# Altium footprint library Pin Grid Array Package (PGA).PcbLib: 60 footprints (part 6 of 6)
Each footprint in its own frame and in the unit in brackets; x right, y up, seen from the top. Pads: shape width x height; smd on the part's side, far side on the other; paste and mask are expansions set on the pad; w line width, h text height; cw(c..) or ccw(c..) is an arc to the next point about the centre after c.
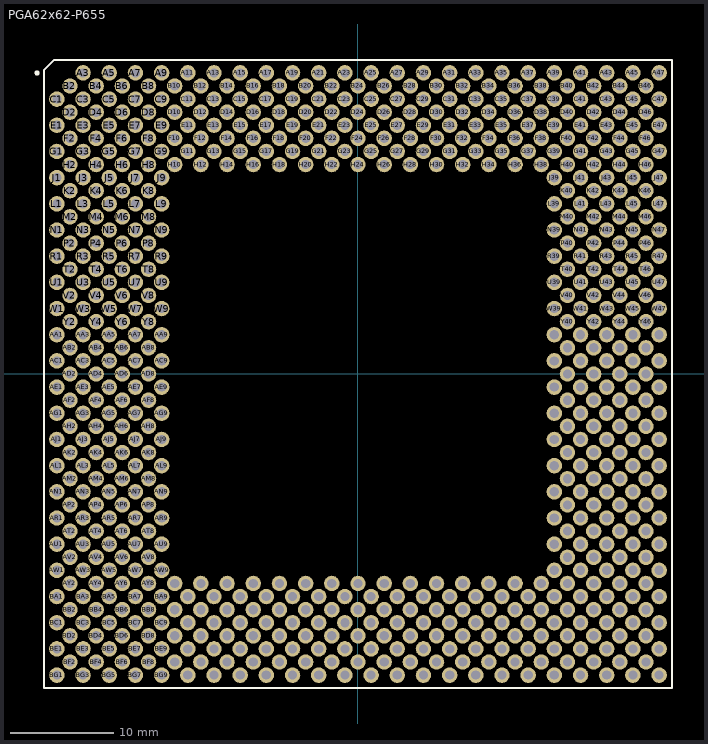
[diagram p5: the footprint, top view; thin cyan lines are the x and y axes]

## PGA62x62-P655 [mm] "655-Pin Ceramic Pin-Grid Array (PGA)"
height 5.08
pads (655):
  round 1.5 hole 0.9: A3(-26.67,29.21) A5(-24.13,29.21) A7(-21.59,29.21) A9(-19.05,29.21) A11(-16.51,29.21) A13(-13.97,29.21) A15(-11.43,29.21) A17(-8.89,29.21) A19(-6.35,29.21) A21(-3.81,29.21) A23(-1.27,29.21) A25(1.27,29.21) A27(3.81,29.21) A29(6.35,29.21) A31(8.89,29.21) A33(11.43,29.21) A35(13.97,29.21) A37(16.51,29.21) A39(19.05,29.21) A41(21.59,29.21) A43(24.13,29.21) A45(26.67,29.21) A47(29.21,29.21) AA1(-29.21,3.81) AA3(-26.67,3.81) AA5(-24.13,3.81) AA7(-21.59,3.81) AA9(-19.05,3.81) AA39(19.05,3.81) AA41(21.59,3.81) AA43(24.13,3.81) AA45(26.67,3.81) AA47(29.21,3.81) AB2(-27.94,2.54) AB4(-25.4,2.54) AB6(-22.86,2.54) AB8(-20.32,2.54) AB40(20.32,2.54) AB42(22.86,2.54) AB44(25.4,2.54) AB46(27.94,2.54) AC1(-29.21,1.27) AC3(-26.67,1.27) AC5(-24.13,1.27) AC7(-21.59,1.27) AC9(-19.05,1.27) AC39(19.05,1.27) AC41(21.59,1.27) AC43(24.13,1.27) AC45(26.67,1.27) AC47(29.21,1.27) AD2(-27.94,0) AD4(-25.4,0) AD6(-22.86,0) AD8(-20.32,0) AD40(20.32,0) AD42(22.86,0) AD44(25.4,0) AD46(27.94,0) AE1(-29.21,-1.27) AE3(-26.67,-1.27) AE5(-24.13,-1.27) AE7(-21.59,-1.27) AE9(-19.05,-1.27) AE39(19.05,-1.27) AE41(21.59,-1.27) AE43(24.13,-1.27) AE45(26.67,-1.27) AE47(29.21,-1.27) AF2(-27.94,-2.54) AF4(-25.4,-2.54) AF6(-22.86,-2.54) AF8(-20.32,-2.54) AF40(20.32,-2.54) AF42(22.86,-2.54) AF44(25.4,-2.54) AF46(27.94,-2.54) AG1(-29.21,-3.81) AG3(-26.67,-3.81) AG5(-24.13,-3.81) AG7(-21.59,-3.81) AG9(-19.05,-3.81) AG39(19.05,-3.81) AG41(21.59,-3.81) AG43(24.13,-3.81) AG45(26.67,-3.81) AG47(29.21,-3.81) AH2(-27.94,-5.08) AH4(-25.4,-5.08) AH6(-22.86,-5.08) AH8(-20.32,-5.08) AH40(20.32,-5.08) AH42(22.86,-5.08) AH44(25.4,-5.08) AH46(27.94,-5.08) AJ1(-29.21,-6.35) AJ3(-26.67,-6.35) AJ5(-24.13,-6.35) AJ7(-21.59,-6.35) AJ9(-19.05,-6.35) AJ39(19.05,-6.35) AJ41(21.59,-6.35) AJ43(24.13,-6.35) AJ45(26.67,-6.35) AJ47(29.21,-6.35) AK2(-27.94,-7.62) AK4(-25.4,-7.62) AK6(-22.86,-7.62) AK8(-20.32,-7.62) AK40(20.32,-7.62) AK42(22.86,-7.62) AK44(25.4,-7.62) AK46(27.94,-7.62) AL1(-29.21,-8.89) AL3(-26.67,-8.89) AL5(-24.13,-8.89) AL7(-21.59,-8.89) AL9(-19.05,-8.89) AL39(19.05,-8.89) AL41(21.59,-8.89) AL43(24.13,-8.89) AL45(26.67,-8.89) AL47(29.21,-8.89) AM2(-27.94,-10.16) AM4(-25.4,-10.16) AM6(-22.86,-10.16) AM8(-20.32,-10.16) AM40(20.32,-10.16) AM42(22.86,-10.16) AM44(25.4,-10.16) AM46(27.94,-10.16) AN1(-29.21,-11.43) AN3(-26.67,-11.43) AN5(-24.13,-11.43) AN7(-21.59,-11.43) AN9(-19.05,-11.43) AN39(19.05,-11.43) AN41(21.59,-11.43) AN43(24.13,-11.43) AN45(26.67,-11.43) AN47(29.21,-11.43) AP2(-27.94,-12.7) AP4(-25.4,-12.7) AP6(-22.86,-12.7) AP8(-20.32,-12.7) AP40(20.32,-12.7) AP42(22.86,-12.7) AP44(25.4,-12.7) AP46(27.94,-12.7) AR1(-29.21,-13.97) AR3(-26.67,-13.97) AR5(-24.13,-13.97) AR7(-21.59,-13.97) AR9(-19.05,-13.97) AR39(19.05,-13.97) AR41(21.59,-13.97) AR43(24.13,-13.97) AR45(26.67,-13.97) AR47(29.21,-13.97) AT2(-27.94,-15.24) AT4(-25.4,-15.24) AT6(-22.86,-15.24) AT8(-20.32,-15.24) AT40(20.32,-15.24) AT42(22.86,-15.24) AT44(25.4,-15.24) AT46(27.94,-15.24) AU1(-29.21,-16.51) AU3(-26.67,-16.51) AU5(-24.13,-16.51) AU7(-21.59,-16.51) AU9(-19.05,-16.51) AU39(19.05,-16.51) AU41(21.59,-16.51) AU43(24.13,-16.51) AU45(26.67,-16.51) AU47(29.21,-16.51) AV2(-27.94,-17.78) AV4(-25.4,-17.78) AV6(-22.86,-17.78) AV8(-20.32,-17.78) AV40(20.32,-17.78) AV42(22.86,-17.78) AV44(25.4,-17.78) AV46(27.94,-17.78) AW1(-29.21,-19.05) AW3(-26.67,-19.05) AW5(-24.13,-19.05) AW7(-21.59,-19.05) AW9(-19.05,-19.05) AW39(19.05,-19.05) AW41(21.59,-19.05) AW43(24.13,-19.05) AW45(26.67,-19.05) AW47(29.21,-19.05) AY2(-27.94,-20.32) AY4(-25.4,-20.32) AY6(-22.86,-20.32) AY8(-20.32,-20.32) AY10(-17.78,-20.32) AY12(-15.24,-20.32) AY14(-12.7,-20.32) AY16(-10.16,-20.32) AY18(-7.62,-20.32) AY20(-5.08,-20.32) AY22(-2.54,-20.32) AY24(0,-20.32) AY26(2.54,-20.32) AY28(5.08,-20.32) AY30(7.62,-20.32) AY32(10.16,-20.32) AY34(12.7,-20.32) AY36(15.24,-20.32) AY38(17.78,-20.32) AY40(20.32,-20.32) AY42(22.86,-20.32) AY44(25.4,-20.32) AY46(27.94,-20.32) B2(-27.94,27.94) B4(-25.4,27.94) B6(-22.86,27.94) B8(-20.32,27.94) B10(-17.78,27.94) B12(-15.24,27.94) B14(-12.7,27.94) B16(-10.16,27.94) B18(-7.62,27.94) B20(-5.08,27.94) B22(-2.54,27.94) B24(0,27.94) B26(2.54,27.94) B28(5.08,27.94) B30(7.62,27.94) B32(10.16,27.94) B34(12.7,27.94) B36(15.24,27.94) B38(17.78,27.94) B40(20.32,27.94) B42(22.86,27.94) B44(25.4,27.94) B46(27.94,27.94) BA1(-29.21,-21.59) BA3(-26.67,-21.59) BA5(-24.13,-21.59) BA7(-21.59,-21.59) BA9(-19.05,-21.59) BA11(-16.51,-21.59) BA13(-13.97,-21.59) BA15(-11.43,-21.59) BA17(-8.89,-21.59) BA19(-6.35,-21.59) BA21(-3.81,-21.59) BA23(-1.27,-21.59) BA25(1.27,-21.59) BA27(3.81,-21.59) BA29(6.35,-21.59) BA31(8.89,-21.59) BA33(11.43,-21.59) BA35(13.97,-21.59) BA37(16.51,-21.59) BA39(19.05,-21.59) BA41(21.59,-21.59) BA43(24.13,-21.59) BA45(26.67,-21.59) BA47(29.21,-21.59) BB2(-27.94,-22.86) BB4(-25.4,-22.86) BB6(-22.86,-22.86) BB8(-20.32,-22.86) BB10(-17.78,-22.86) BB12(-15.24,-22.86) BB14(-12.7,-22.86) BB16(-10.16,-22.86) BB18(-7.62,-22.86) BB20(-5.08,-22.86) BB22(-2.54,-22.86) BB24(0,-22.86) BB26(2.54,-22.86) BB28(5.08,-22.86) BB30(7.62,-22.86) BB32(10.16,-22.86) BB34(12.7,-22.86) BB36(15.24,-22.86) BB38(17.78,-22.86) BB40(20.32,-22.86) BB42(22.86,-22.86) BB44(25.4,-22.86) BB46(27.94,-22.86) BC1(-29.21,-24.13) BC3(-26.67,-24.13) BC5(-24.13,-24.13) BC7(-21.59,-24.13) BC9(-19.05,-24.13) BC11(-16.51,-24.13) BC13(-13.97,-24.13) BC15(-11.43,-24.13) BC17(-8.89,-24.13) BC19(-6.35,-24.13) BC21(-3.81,-24.13) BC23(-1.27,-24.13) BC25(1.27,-24.13) BC27(3.81,-24.13) BC29(6.35,-24.13) BC31(8.89,-24.13) BC33(11.43,-24.13) BC35(13.97,-24.13) BC37(16.51,-24.13) BC39(19.05,-24.13) BC41(21.59,-24.13) BC43(24.13,-24.13) BC45(26.67,-24.13) BC47(29.21,-24.13) BD2(-27.94,-25.4) BD4(-25.4,-25.4) BD6(-22.86,-25.4) BD8(-20.32,-25.4) BD10(-17.78,-25.4) BD12(-15.24,-25.4) BD14(-12.7,-25.4) BD16(-10.16,-25.4) BD18(-7.62,-25.4) BD20(-5.08,-25.4) BD22(-2.54,-25.4) BD24(0,-25.4) BD26(2.54,-25.4) BD28(5.08,-25.4) BD30(7.62,-25.4) BD32(10.16,-25.4) BD34(12.7,-25.4) BD36(15.24,-25.4) BD38(17.78,-25.4) BD40(20.32,-25.4) BD42(22.86,-25.4) BD44(25.4,-25.4) BD46(27.94,-25.4) BE1(-29.21,-26.67) BE3(-26.67,-26.67) BE5(-24.13,-26.67) BE7(-21.59,-26.67) BE9(-19.05,-26.67) BE11(-16.51,-26.67) BE13(-13.97,-26.67) BE15(-11.43,-26.67) BE17(-8.89,-26.67) BE19(-6.35,-26.67) BE21(-3.81,-26.67) BE23(-1.27,-26.67) BE25(1.27,-26.67) BE27(3.81,-26.67) BE29(6.35,-26.67) BE31(8.89,-26.67) BE33(11.43,-26.67) BE35(13.97,-26.67) BE37(16.51,-26.67) BE39(19.05,-26.67) BE41(21.59,-26.67) BE43(24.13,-26.67) BE45(26.67,-26.67) BE47(29.21,-26.67) BF2(-27.94,-27.94) BF4(-25.4,-27.94) BF6(-22.86,-27.94) BF8(-20.32,-27.94) BF10(-17.78,-27.94) BF12(-15.24,-27.94) BF14(-12.7,-27.94) BF16(-10.16,-27.94) BF18(-7.62,-27.94) BF20(-5.08,-27.94) BF22(-2.54,-27.94) BF24(0,-27.94) BF26(2.54,-27.94) BF28(5.08,-27.94) BF30(7.62,-27.94) BF32(10.16,-27.94) BF34(12.7,-27.94) BF36(15.24,-27.94) BF38(17.78,-27.94) BF40(20.32,-27.94) BF42(22.86,-27.94) BF44(25.4,-27.94) BF46(27.94,-27.94) BG1(-29.21,-29.21) BG3(-26.67,-29.21) BG5(-24.13,-29.21) BG7(-21.59,-29.21) BG9(-19.05,-29.21) BG11(-16.51,-29.21) BG13(-13.97,-29.21) BG15(-11.43,-29.21) BG17(-8.89,-29.21) BG19(-6.35,-29.21) BG21(-3.81,-29.21) BG23(-1.27,-29.21) BG25(1.27,-29.21) BG27(3.81,-29.21) BG29(6.35,-29.21) BG31(8.89,-29.21) BG33(11.43,-29.21) BG35(13.97,-29.21) BG37(16.51,-29.21) BG39(19.05,-29.21) BG41(21.59,-29.21) BG43(24.13,-29.21) BG45(26.67,-29.21) BG47(29.21,-29.21) C1(-29.21,26.67) C3(-26.67,26.67) C5(-24.13,26.67) C7(-21.59,26.67) C9(-19.05,26.67) C11(-16.51,26.67) C13(-13.97,26.67) C15(-11.43,26.67) C17(-8.89,26.67) C19(-6.35,26.67) C21(-3.81,26.67) C23(-1.27,26.67) C25(1.27,26.67) C27(3.81,26.67) C29(6.35,26.67) C31(8.89,26.67) C33(11.43,26.67) C35(13.97,26.67) C37(16.51,26.67) C39(19.05,26.67) C41(21.59,26.67) C43(24.13,26.67) C45(26.67,26.67) C47(29.21,26.67) D2(-27.94,25.4) D4(-25.4,25.4) D6(-22.86,25.4) D8(-20.32,25.4) D10(-17.78,25.4) D12(-15.24,25.4) D14(-12.7,25.4) D16(-10.16,25.4) D18(-7.62,25.4) D20(-5.08,25.4) D22(-2.54,25.4) D24(0,25.4) D26(2.54,25.4) D28(5.08,25.4) D30(7.62,25.4) D32(10.16,25.4) D34(12.7,25.4) D36(15.24,25.4) D38(17.78,25.4) D40(20.32,25.4) D42(22.86,25.4) D44(25.4,25.4) D46(27.94,25.4) E1(-29.21,24.13) E3(-26.67,24.13) E5(-24.13,24.13) E7(-21.59,24.13) E9(-19.05,24.13) E11(-16.51,24.13) E13(-13.97,24.13) E15(-11.43,24.13) E17(-8.89,24.13) E19(-6.35,24.13) E21(-3.81,24.13) E23(-1.27,24.13) E25(1.27,24.13) E27(3.81,24.13) E29(6.35,24.13) E31(8.89,24.13) E33(11.43,24.13) E35(13.97,24.13) E37(16.51,24.13) E39(19.05,24.13) E41(21.59,24.13) E43(24.13,24.13) E45(26.67,24.13) E47(29.21,24.13) F2(-27.94,22.86) F4(-25.4,22.86) F6(-22.86,22.86) F8(-20.32,22.86) F10(-17.78,22.86) F12(-15.24,22.86) F14(-12.7,22.86) F16(-10.16,22.86) F18(-7.62,22.86) F20(-5.08,22.86) F22(-2.54,22.86) F24(0,22.86) F26(2.54,22.86) F28(5.08,22.86) F30(7.62,22.86) F32(10.16,22.86) F34(12.7,22.86) F36(15.24,22.86) F38(17.78,22.86) F40(20.32,22.86) F42(22.86,22.86) F44(25.4,22.86) F46(27.94,22.86) G1(-29.21,21.59) G3(-26.67,21.59) G5(-24.13,21.59) G7(-21.59,21.59) G9(-19.05,21.59) G11(-16.51,21.59) G13(-13.97,21.59) G15(-11.43,21.59) G17(-8.89,21.59) G19(-6.35,21.59) G21(-3.81,21.59) G23(-1.27,21.59) G25(1.27,21.59) G27(3.81,21.59) G29(6.35,21.59) G31(8.89,21.59) G33(11.43,21.59) G35(13.97,21.59) G37(16.51,21.59) G39(19.05,21.59) G41(21.59,21.59) G43(24.13,21.59) G45(26.67,21.59) G47(29.21,21.59) H2(-27.94,20.32) H4(-25.4,20.32) H6(-22.86,20.32) H8(-20.32,20.32) H10(-17.78,20.32) H12(-15.24,20.32) H14(-12.7,20.32) H16(-10.16,20.32) H18(-7.62,20.32) H20(-5.08,20.32) H22(-2.54,20.32) H24(0,20.32) H26(2.54,20.32) H28(5.08,20.32) H30(7.62,20.32) H32(10.16,20.32) H34(12.7,20.32) H36(15.24,20.32) H38(17.78,20.32) H40(20.32,20.32) H42(22.86,20.32) H44(25.4,20.32) H46(27.94,20.32) J1(-29.21,19.05) J3(-26.67,19.05) J5(-24.13,19.05) J7(-21.59,19.05) J9(-19.05,19.05) J39(19.05,19.05) J41(21.59,19.05) J43(24.13,19.05) J45(26.67,19.05) J47(29.21,19.05) K2(-27.94,17.78) K4(-25.4,17.78) K6(-22.86,17.78) K8(-20.32,17.78) K40(20.32,17.78) K42(22.86,17.78) K44(25.4,17.78) K46(27.94,17.78) L1(-29.21,16.51) L3(-26.67,16.51) L5(-24.13,16.51) L7(-21.59,16.51) L9(-19.05,16.51) L39(19.05,16.51) L41(21.59,16.51) L43(24.13,16.51) L45(26.67,16.51) L47(29.21,16.51) M2(-27.94,15.24) M4(-25.4,15.24) M6(-22.86,15.24) M8(-20.32,15.24) M40(20.32,15.24) M42(22.86,15.24) M44(25.4,15.24) M46(27.94,15.24) N1(-29.21,13.97) N3(-26.67,13.97) N5(-24.13,13.97) N7(-21.59,13.97) N9(-19.05,13.97) N39(19.05,13.97) N41(21.59,13.97) N43(24.13,13.97) N45(26.67,13.97) N47(29.21,13.97) P2(-27.94,12.7) P4(-25.4,12.7) P6(-22.86,12.7) P8(-20.32,12.7) P40(20.32,12.7) P42(22.86,12.7) P44(25.4,12.7) P46(27.94,12.7) R1(-29.21,11.43) R3(-26.67,11.43) R5(-24.13,11.43) R7(-21.59,11.43) R9(-19.05,11.43) R39(19.05,11.43) R41(21.59,11.43) R43(24.13,11.43) R45(26.67,11.43) R47(29.21,11.43) T2(-27.94,10.16) T4(-25.4,10.16) T6(-22.86,10.16) T8(-20.32,10.16) T40(20.32,10.16) T42(22.86,10.16) T44(25.4,10.16) T46(27.94,10.16) U1(-29.21,8.89) U3(-26.67,8.89) U5(-24.13,8.89) U7(-21.59,8.89) U9(-19.05,8.89) U39(19.05,8.89) U41(21.59,8.89) U43(24.13,8.89) U45(26.67,8.89) U47(29.21,8.89) V2(-27.94,7.62) V4(-25.4,7.62) V6(-22.86,7.62) V8(-20.32,7.62) V40(20.32,7.62) V42(22.86,7.62) V44(25.4,7.62) V46(27.94,7.62) W1(-29.21,6.35) W3(-26.67,6.35) W5(-24.13,6.35) W7(-21.59,6.35) W9(-19.05,6.35) W39(19.05,6.35) W41(21.59,6.35) W43(24.13,6.35) W45(26.67,6.35) W47(29.21,6.35) Y2(-27.94,5.08) Y4(-25.4,5.08) Y6(-22.86,5.08) Y8(-20.32,5.08) Y40(20.32,5.08) Y42(22.86,5.08) Y44(25.4,5.08) Y46(27.94,5.08)
Top Overlay:
  circle w0.25: c-31.13,29.21 r0.125
  lines w0.2: -30.48,-30.48 -30.48,29.48 -29.48,30.48 30.48,30.48 30.48,-30.48 -30.48,-30.48